# Altium schematic symbol library ZX62-B-5PA11.SchLib: 1 symbol
Pins are listed as number, name and electrical type; pins without a type are passive.

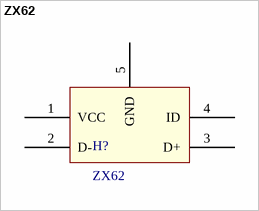
[diagram p0: symbol ZX62]

## ZX62
designator H?
pins: 1 VCC, 2 D-, 3 D+, 4 ID, 5 GND